# Altium schematic symbol library lightshow.SchLib: 3 symbols
Pins are listed as number, name and electrical type; pins without a type are passive.

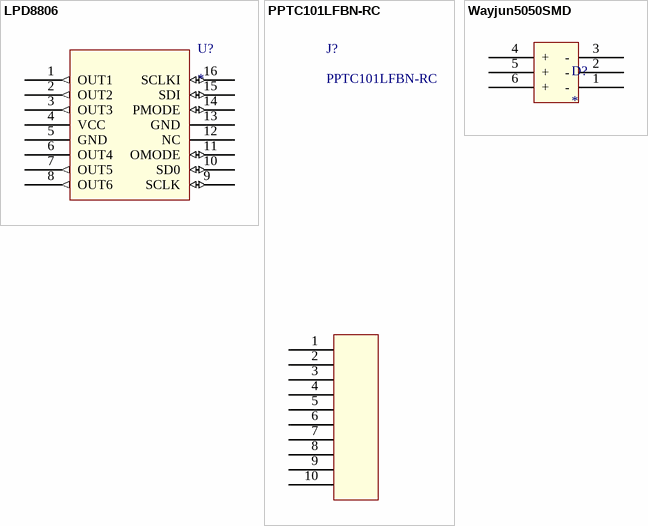
[diagram p0: symbols LPD8806 to Wayjun5050SMD]

## LPD8806
designator U?
LPD8806 LED Driver
footprint SOP127P600-8N
pins: 1 OUT1 (out), 2 OUT2 (out) "OUT1", 3 OUT3 (out) "OUT1", 4 VCC (power), 5 GND (power), 6 OUT4 (power) "GND", 7 OUT5 (out), 8 OUT6 (out) "OUT5", 9 SCLK (io), 10 SD0 (io) "SCLK", 11 OMODE (io) "SCLK", 12 NC, 13 GND (power), 14 PMODE (io), 15 SDI (io) "PMODE", 16 SCLKI (io)

## PPTC101LFBN-RC
designator J?
Sullins PPTC101LFBN-RC 10 Position Header Connector 0.100" (2.54mm) Through Hole Tin
footprint PPTC101LFBN-RC (Sullins 10 Pin .100 spacing Femal connector - Single Role)
pins: 1, 2, 3, 4, 5, 6, 7, 8, 9, 10

## Wayjun5050SMD
designator D?
footprint SON150P500X150_HS-7N (SON, 6-Leads, Body 5.00x5.00mm, Pitch 1.50mm, Thermal Pad 4.00x1.50mm, IPC Medium Density)
pins: 1 - (power), 2 - (power), 3 - (power), 4 + (power), 5 + (power), 6 + (power)